# EAGLE library part 1981584-1 (library neopixel_board)
CONN RCPT MICRO USB TYPE AB https://www.digikey.com/product-detail/en/te-connectivity-amp-connectors/1981584-1/A97799TR-ND/1786247
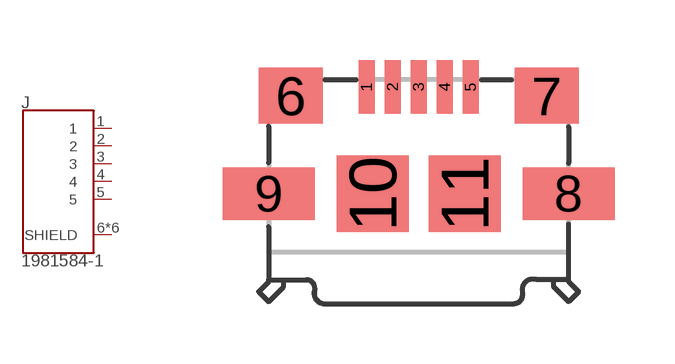
[diagram p2: symbol with the pads of TE_1981584-1; footprint TE_1981584-1]

Designator prefix J

## 1981584-1 (CENTERLINE_PITCH: .65 mm[.025 in]; COMMENT: 1981584-1; DESCRIPTION: REC TYPE AB ASSY _Au_ MICRO USB; DIGI-KEY_PART_NUMBER: A97799CT-ND; DIGI-KEY_PURCHASE_URL: https://www.digikey.com/product-detail/en/te-connectivity-amp-connectors/1981584-1/A97799CT-ND/1786249?utm_source=snapeda&utm_medium=aggregator&utm_campaign=symbol; MF: TE Connectivity; MP: 1981584-1; NUMBER_OF_POSITIONS: 5; PACKAGE: None; PRODUCT_TYPE: Connector; TE_PURCHASE_URL: https://www.te.com/usa-en/product-1981584-1.html?te_bu=Cor&te_type=disp&te_campaign=seda_glo_cor-seda-global-disp-prtnr-fy19-seda-model-bom-cta_sma-317_1&elqCampaignId=32493)  [TE_1981584-1]
1  1  pas
2  2  pas
3  3  pas
4  4  pas
5  5  pas
6  SHIELD  pas
7  SHIELD  pas
8  SHIELD  pas
9  SHIELD  pas
10  SHIELD  pas
11  SHIELD  pas

## Footprint TE_1981584-1 (pad centres in mm)
https://www.digikey.com/product-detail/en/te-connectivity-amp-connectors/1981584-1/A97799TR-ND/1786247
smd 0.4 x 1.35: 1 -1.3,2.675; 2 -0.65,2.675; 3 0,2.675; 4 0.65,2.675; 5 1.3,2.675
smd 1.6 x 1.4: 6 -3.2,2.45; 7 3.2,2.45
smd 2.3 x 1.3: 8 3.75,0; 9 -3.75,0
smd 1.8 x 1.9: 10 -1.15,0; 11 1.15,0